# EAGLE library part HIP4086 (library intersil)
Three Phase Bridge N-Channel MOSFET Driver 80V, 0.5A Source: http://www.intersil.com/data/fn/fn4220.pdf
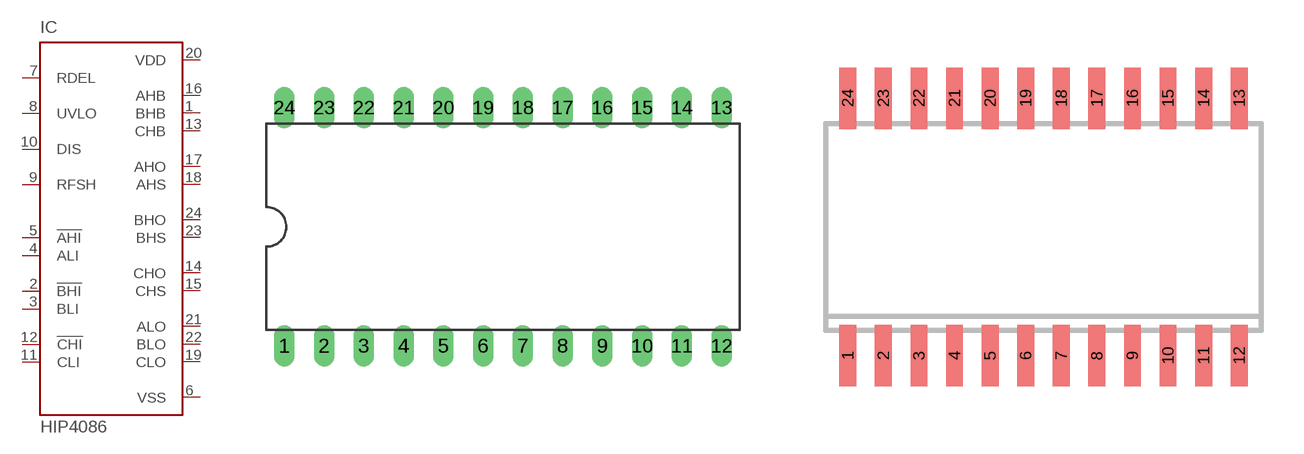
[diagram p0: symbol with the pads of DIL24-6; footprints DIL24-6, SO24W]

Designator prefix IC

## HIP4086AP (MF: INTERSIL; MPN: HIP4086APZ; OC_FARNELL: 9664203; OC_NEWARK: 61J5967)  [DIL24-6]
1  BHB  pas
2  !BHI  in
3  BLI  in
4  ALI  in
5  !AHI  in
6  VSS  pwr
7  RDEL  in
8  UVLO  in
9  RFSH  in
10  DIS  in
11  CLI  in
12  !CHI  in
13  CHB  pas
14  CHO  out
15  CHS  in
16  AHB  pas
17  AHO  out
18  AHS  in
19  CLO  out
20  VDD  pwr
21  ALO  out
22  BLO  out
23  BHS  in
24  BHO  out

## HIP4086AB (MF: INTERSIL; MPN: HIP4086ABZ; OC_FARNELL: 1561974; OC_NEWARK: 20J4468)  [SO24W]
Pads as for DIL24-6

## Footprint DIL24-6 (pad centres in mm)
Dual In Line Package 0.6 inch
drill 0.813 long: 1 -13.97,-7.62; 2 -11.43,-7.62; 3 -8.89,-7.62; 4 -6.35,-7.62; 5 -3.81,-7.62; 6 -1.27,-7.62; 7 1.27,-7.62; 8 3.81,-7.62; 9 6.35,-7.62; 10 8.89,-7.62; 11 11.43,-7.62; 12 13.97,-7.62; 13 13.97,7.62; 14 11.43,7.62; 15 8.89,7.62; 16 6.35,7.62; 17 3.81,7.62; 18 1.27,7.62; 19 -1.27,7.62; 20 -3.81,7.62; 21 -6.35,7.62; 22 -8.89,7.62; 23 -11.43,7.62; 24 -13.97,7.62

## Footprint SO24W (pad centres in mm)
24 LEAD WIDE BODY SMALL OUTLINE PLASTIC PACKAGE wide body 7.5 mm
smd 0.6 x 2.2: 1 -6.985,-4.6; 2 -5.715,-4.6; 3 -4.445,-4.6; 4 -3.175,-4.6; 5 -1.905,-4.6; 6 -0.635,-4.6; 7 0.635,-4.6; 8 1.905,-4.6; 9 3.175,-4.6; 10 4.445,-4.6; 11 5.715,-4.6; 12 6.985,-4.6; 13 6.985,4.6; 14 5.715,4.6; 15 4.445,4.6; 16 3.175,4.6; 17 1.905,4.6; 18 0.635,4.6; 19 -0.635,4.6; 20 -1.905,4.6; 21 -3.175,4.6; 22 -4.445,4.6; 23 -5.715,4.6; 24 -6.985,4.6